# EAGLE library part EF6 (library radiotubes)
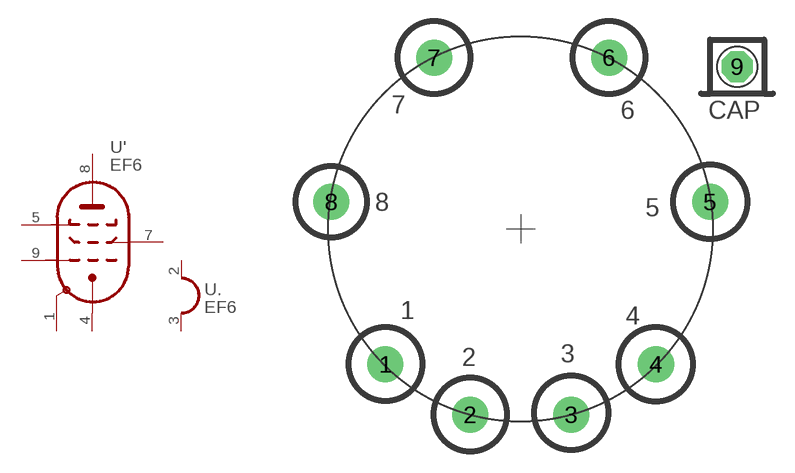
[diagram p139: symbol with the pads of P8CAP; footprint P8CAP]

Designator prefix -; gates '=PENT-1S .=HEATER_1

## EF6  [P8CAP]
1  ':S  pas
2  .:H1  pas
3  .:H2  pas
4  ':K+S  pas
5  ':G3  pas
7  ':G2  pas
8  ':A  pas
9  ':G1  pas

## Footprint P8CAP (pad centres in mm)
drill 1.27 pad 2.54: 1 -9.525,-9.525; 2 -3.556,-13.081; 3 3.556,-13.081; 4 9.525,-9.525; 5 13.335,1.905; 6 6.223,12.065; 7 -6.096,12.065; 8 -13.335,1.905
drill 0.813 pad 2.184 octagon: 9 15.24,11.43